# Altium schematic symbol library WCAP-ATG8.SchLib: 195 symbols (part 4 of 4)
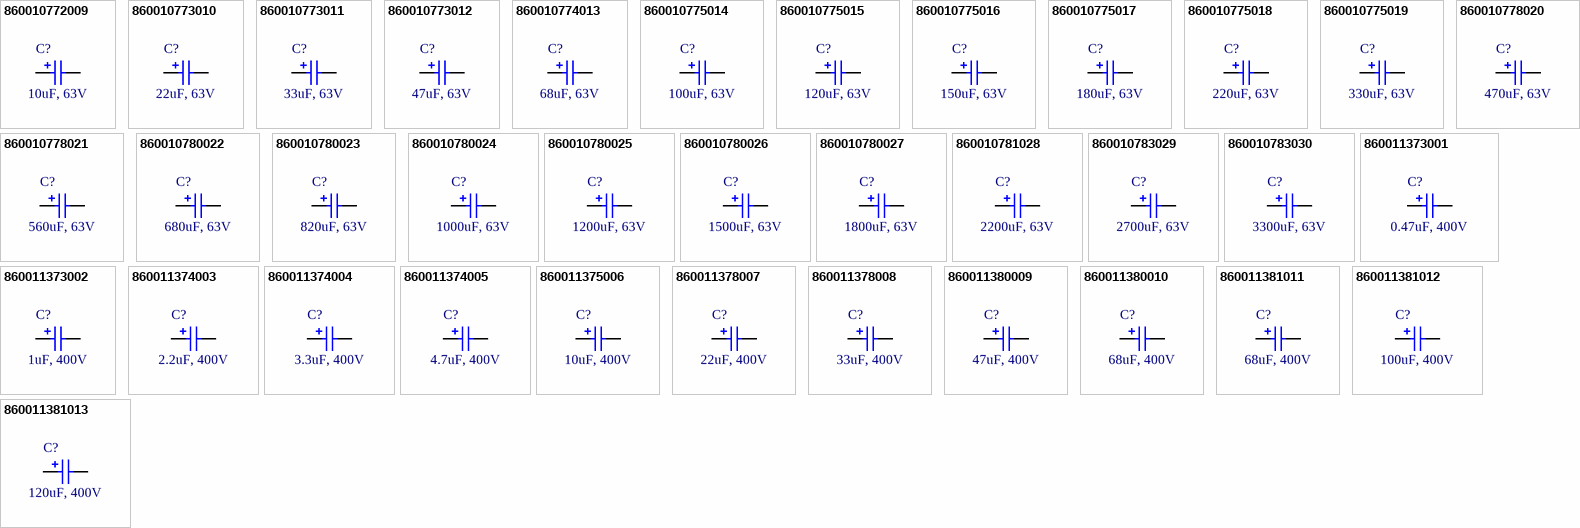
[diagram p7: symbols 860010772009 to 860011381013]

## 860011374004
designator C?, comment 3.3uF, 400V
WCAP-ATG8 Aluminum Electrolytic Capacitor, Radial, THT, D8xH11.5, 3.3uF, 400V; Manufacturer Part Number: 860011374004; Manufacturer: Wurth Elektronik; Ripple Current: 45mA; Rated Voltage: 400VDC; Technical Reference: ATAE1153R3M400DSPA7B000; Leakage Current: 39.6uA; Endurance: 2000h; Dissipation Factor: 15%; Capacitance Tolerance: +/-20%; ComponentLink2Description: Datasheet; Published Date: October 2020; Packaging: Ammo Pack; Operating Temperature: -25 to +85degC; Mounting Technology: THT; Height: 11.5mm; Diameter: 8mm; ComponentLink2URL: https://www.we-online.com/catalog/datasheet/860011374004.pdf; ComponentLink1URL: http://www.we-online.de; ComponentLink1Description: Manufacturer; Capacitance: 3.3uF
footprint WCAP-ATG8_D8H11.5
pins: 1 P, 2 N

## 860011374005
designator C?, comment 4.7uF, 400V
WCAP-ATG8 Aluminum Electrolytic Capacitor, Radial, THT, D8xH11.5, 4.7uF, 400V; Manufacturer Part Number: 860011374005; Manufacturer: Wurth Elektronik; Ripple Current: 55mA; Rated Voltage: 400VDC; Technical Reference: ATAE1154R7M400DSPA7B000; Leakage Current: 56.4uA; Endurance: 2000h; Dissipation Factor: 15%; Capacitance Tolerance: +/-20%; ComponentLink2Description: Datasheet; Published Date: October 2020; Packaging: Ammo Pack; Operating Temperature: -25 to +85degC; Mounting Technology: THT; Height: 11.5mm; Diameter: 8mm; ComponentLink2URL: https://www.we-online.com/catalog/datasheet/860011374005.pdf; ComponentLink1URL: http://www.we-online.de; ComponentLink1Description: Manufacturer; Capacitance: 4.7uF
footprint WCAP-ATG8_D8H11.5
pins: 1 P, 2 N

## 860011375006
designator C?, comment 10uF, 400V
WCAP-ATG8 Aluminum Electrolytic Capacitor, Radial, THT, D10xH16, 10uF, 400V; Manufacturer Part Number: 860011375006; Manufacturer: Wurth Elektronik; Ripple Current: 100mA; Rated Voltage: 400VDC; Technical Reference: ATAF160100M400DSPAAB000; Leakage Current: 120uA; Endurance: 2000h; Dissipation Factor: 15%; Capacitance Tolerance: +/-20%; ComponentLink2Description: Datasheet; Published Date: October 2020; Packaging: Ammo Pack; Operating Temperature: -25 to +85degC; Mounting Technology: THT; Height: 16mm; Diameter: 10mm; ComponentLink2URL: https://www.we-online.com/catalog/datasheet/860011375006.pdf; ComponentLink1URL: http://www.we-online.de; ComponentLink1Description: Manufacturer; Capacitance: 10uF
footprint WCAP-ATG8_D10H16
pins: 1 P, 2 N

## 860011378007
designator C?, comment 22uF, 400V
WCAP-ATG8 Aluminum Electrolytic Capacitor, Radial, THT, D13xH20, 22uF, 400V; Manufacturer Part Number: 860011378007; Manufacturer: Wurth Elektronik; Ripple Current: 190mA; Rated Voltage: 400VDC; Technical Reference: ATAI200220M400DSPACB000; Leakage Current: 264uA; Endurance: 2000h; Dissipation Factor: 15%; Capacitance Tolerance: +/-20%; ComponentLink2Description: Datasheet; Published Date: October 2020; Packaging: Ammo Pack; Operating Temperature: -25 to +85degC; Mounting Technology: THT; Height: 20mm; Diameter: 13mm; ComponentLink2URL: https://www.we-online.com/catalog/datasheet/860011378007.pdf; ComponentLink1URL: http://www.we-online.de; ComponentLink1Description: Manufacturer; Capacitance: 22uF
footprint WCAP-ATG8_D13H20
pins: 1 P, 2 N

## 860011378008
designator C?, comment 33uF, 400V
WCAP-ATG8 Aluminum Electrolytic Capacitor, Radial, THT, D13xH25, 33uF, 400V; Manufacturer Part Number: 860011378008; Manufacturer: Wurth Elektronik; Ripple Current: 230mA; Rated Voltage: 400VDC; Technical Reference: ATAI250330M400DSPACB000; Leakage Current: 396uA; Endurance: 2000h; Dissipation Factor: 15%; Capacitance Tolerance: +/-20%; ComponentLink2Description: Datasheet; Published Date: October 2020; Packaging: Ammo Pack; Operating Temperature: -25 to +85degC; Mounting Technology: THT; Height: 25mm; Diameter: 13mm; ComponentLink2URL: https://www.we-online.com/catalog/datasheet/860011378008.pdf; ComponentLink1URL: http://www.we-online.de; ComponentLink1Description: Manufacturer; Capacitance: 33uF
footprint WCAP-ATG8_D13H25
pins: 1 P, 2 N

## 860011380009
designator C?, comment 47uF, 400V
WCAP-ATG8 Aluminum Electrolytic Capacitor, Radial, THT, D16xH25, 47uF, 400V; Manufacturer Part Number: 860011380009; Manufacturer: Wurth Elektronik; Ripple Current: 270mA; Rated Voltage: 400VDC; Technical Reference: ATAK250470M400DSPAEB000; Leakage Current: 564uA; Endurance: 2000h; Dissipation Factor: 15%; Capacitance Tolerance: +/-20%; ComponentLink2Description: Datasheet; Published Date: October 2020; Packaging: Ammo Pack; Operating Temperature: -25 to +85degC; Mounting Technology: THT; Height: 25mm; Diameter: 16mm; ComponentLink2URL: https://www.we-online.com/catalog/datasheet/860011380009.pdf; ComponentLink1URL: http://www.we-online.de; ComponentLink1Description: Manufacturer; Capacitance: 47uF
footprint WCAP-ATG8_D16H25
pins: 1 P, 2 N

## 860011380010
designator C?, comment 68uF, 400V
WCAP-ATG8 Aluminum Electrolytic Capacitor, Radial, THT, D16xH35.5, 68uF, 400V; Manufacturer Part Number: 860011380010; Manufacturer: Wurth Elektronik; Ripple Current: 410mA; Rated Voltage: 400VDC; Technical Reference: ATAK355680M400DSPADB000; Leakage Current: 816uA; Endurance: 2000h; Dissipation Factor: 15%; Capacitance Tolerance: +/-20%; ComponentLink2Description: Datasheet; Published Date: October 2020; Packaging: Ammo Pack; Operating Temperature: -25 to +85degC; Mounting Technology: THT; Height: 35.5mm; Diameter: 16mm; ComponentLink2URL: https://www.we-online.com/catalog/datasheet/860011380010.pdf; ComponentLink1URL: http://www.we-online.de; ComponentLink1Description: Manufacturer; Capacitance: 68uF
footprint WCAP-ATG8_D16H35.5
pins: 1 P, 2 N

## 860011381011
designator C?, comment 68uF, 400V
WCAP-ATG8 Aluminum Electrolytic Capacitor, Radial, THT, D18xH25, 68uF, 400V; Manufacturer Part Number: 860011381011; Manufacturer: Wurth Elektronik; Ripple Current: 380mA; Rated Voltage: 400VDC; Technical Reference: ATAL250680M400DSPAEB000; Leakage Current: 816uA; Endurance: 2000h; Dissipation Factor: 15%; Capacitance Tolerance: +/-20%; ComponentLink2Description: Datasheet; Published Date: October 2020; Packaging: Ammo Pack; Operating Temperature: -25 to +85degC; Mounting Technology: THT; Height: 25mm; Diameter: 18mm; ComponentLink2URL: https://www.we-online.com/catalog/datasheet/860011381011.pdf; ComponentLink1URL: http://www.we-online.de; ComponentLink1Description: Manufacturer; Capacitance: 68uF
footprint WCAP-ATG8_D18H25
pins: 1 P, 2 N

## 860011381012
designator C?, comment 100uF, 400V
WCAP-ATG8 Aluminum Electrolytic Capacitor, Radial, THT, D18xH31.5, 100uF, 400V; Manufacturer Part Number: 860011381012; Manufacturer: Wurth Elektronik; Ripple Current: 440mA; Rated Voltage: 400VDC; Technical Reference: ATAL315101M400DSPAEB000; Leakage Current: 1200uA; Endurance: 2000h; Dissipation Factor: 15%; Capacitance Tolerance: +/-20%; ComponentLink2Description: Datasheet; Published Date: October 2020; Packaging: Ammo Pack; Operating Temperature: -25 to +85degC; Mounting Technology: THT; Height: 31.5mm; Diameter: 18mm; ComponentLink2URL: https://www.we-online.com/catalog/datasheet/860011381012.pdf; ComponentLink1URL: http://www.we-online.de; ComponentLink1Description: Manufacturer; Capacitance: 100uF
footprint WCAP-ATG8_D18H31.5
pins: 1 P, 2 N

## 860011381013
designator C?, comment 120uF, 400V
WCAP-ATG8 Aluminum Electrolytic Capacitor, Radial, THT, D18xH41, 120uF, 400V; Manufacturer Part Number: 860011381013; Manufacturer: Wurth Elektronik; Ripple Current: 520mA; Rated Voltage: 400VDC; Technical Reference: ATAL410121M400DSPS1B000; Leakage Current: 1440uA; Endurance: 2000h; Dissipation Factor: 15%; Capacitance Tolerance: +/-20%; ComponentLink2Description: Datasheet; Published Date: October 2020; Packaging: Ammo Pack; Operating Temperature: -25 to +85degC; Mounting Technology: THT; Height: 41mm; Diameter: 18mm; ComponentLink2URL: https://www.we-online.com/catalog/datasheet/860011381013.pdf; ComponentLink1URL: http://www.we-online.de; ComponentLink1Description: Manufacturer; Capacitance: 120uF
footprint WCAP-ATG8_D18H41
pins: 1 P, 2 N